# EAGLE library part MSP430G2553IN20 (library baja)
MIXED SIGNAL MICROCONTROLLER
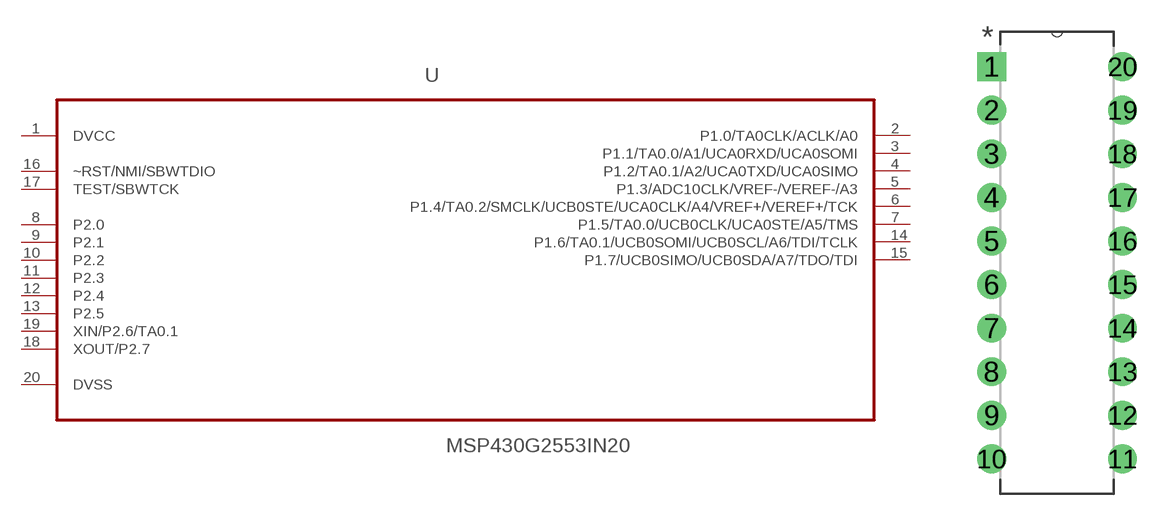
[diagram p0: symbol with the pads of DIP254P762X508-20; footprint DIP254P762X508-20]

Designator prefix U

## MSP430G2553IN20 (MPN: MSP430G2332IN20; OC_FARNELL: 1866890; OC_NEWARK: 24T4694; PACKAGE: PDIP-20; SUPPLIER: Texas Instruments)  [DIP254P762X508-20]
1  DVCC  pwr
2  P1.0/TA0CLK/ACLK/A0
3  P1.1/TA0.0/A1/UCA0RXD/UCA0SOMI
4  P1.2/TA0.1/A2/UCA0TXD/UCA0SIMO
5  P1.3/ADC10CLK/VREF-/VEREF-/A3
6  P1.4/TA0.2/SMCLK/UCB0STE/UCA0CLK/A4/VREF+/VEREF+/TCK
7  P1.5/TA0.0/UCB0CLK/UCA0STE/A5/TMS
8  P2.0
9  P2.1
10  P2.2
11  P2.3
12  P2.4
13  P2.5
14  P1.6/TA0.1/UCB0SOMI/UCB0SCL/A6/TDI/TCLK
15  P1.7/UCB0SIMO/UCB0SDA/A7/TDO/TDI
16  ~RST/NMI/SBWTDIO  in
17  TEST/SBWTCK  in
18  XOUT/P2.7
19  XIN/P2.6/TA0.1
20  DVSS  pwr

## Footprint DIP254P762X508-20 (pad centres in mm)
drill 1.118 square: 1 -7.62,22.86
drill 1.118: 2 -7.62,20.32; 3 -7.62,17.78; 4 -7.62,15.24; 5 -7.62,12.7; 6 -7.62,10.16; 7 -7.62,7.62; 8 -7.62,5.08; 9 -7.62,2.54; 10 -7.62,0; 11 0,0; 12 0,2.54; 13 0,5.08; 14 0,7.62; 15 0,10.16; 16 0,12.7; 17 0,15.24; 18 0,17.78; 19 0,20.32; 20 0,22.86